# Altium footprint library CAPPOL-16x25.PcbLib: 1 footprints
Each footprint in its own frame and in the unit in brackets; x right, y up, seen from the top. Pads: shape width x height; smd on the part's side, far side on the other; paste and mask are expansions set on the pad; w line width, h text height; cw(c..) or ccw(c..) is an arc to the next point about the centre after c.
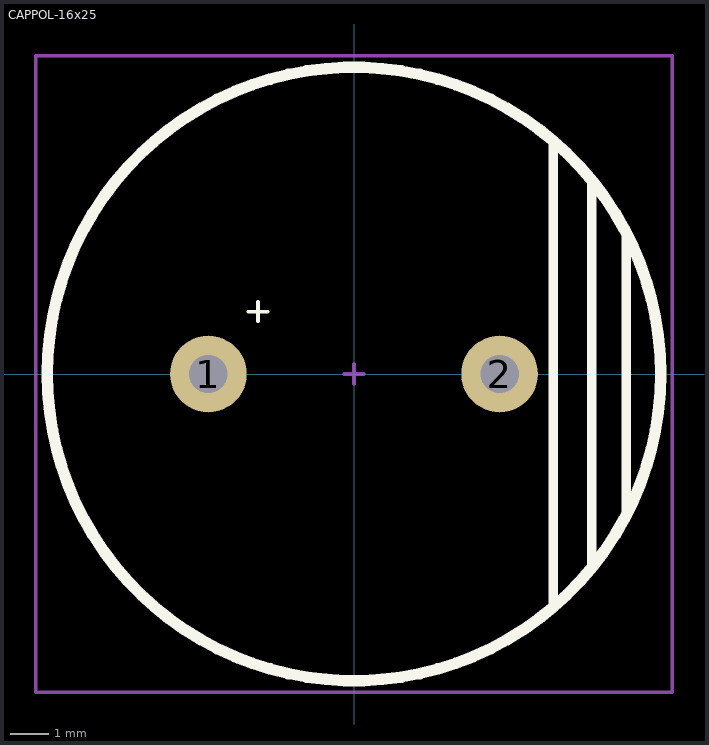
[diagram p0: the footprint, top view; thin cyan lines are the x and y axes]

## CAPPOL-16x25 [mm]
height 0.95
pads (2):
  round 2 hole 1: 1(-3.8,0) 2(3.8,0)
Top Overlay:
  circle w0.3: c0,0 r8
  lines w0.1: -2.75,1.625 -2.25,1.625 ; -2.5,1.375 -2.5,1.875
  lines w0.254: 5.2,-6 5.2,6 ; 6.2,-5 6.2,5 ; 7.1,-3.6 7.1,3.6
Top Assembly:
  lines w0.1: -0.25,0 0.25,0 ; 0,-0.25 0,0.25 ; -8.3,-8.3 8.3,-8.3 8.3,8.3 -8.3,8.3 -8.3,-8.3
  text "'.Designator'" at 0,0 h0.7
3D body "User Library-CE_R300_D650_H1000.STEP": height 25.4, standoff -3.5, extent -8.25,-8.242 8.25,8.242